# Altium schematic symbol library ws2812b.SchLib: 2 symbols
Pins are listed as number, name and electrical type; pins without a type are passive.

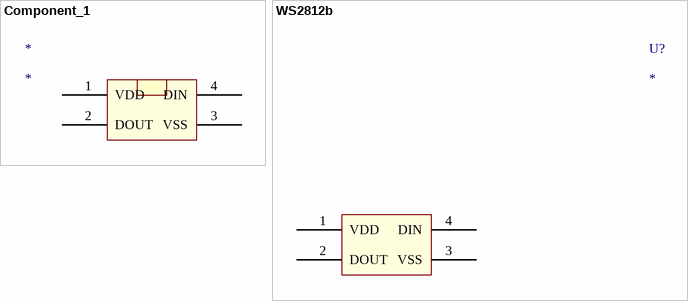
[diagram p0: symbols Component_1 to WS2812b]

## Component_1
designator *
footprint PCBComponent_1 - duplicate
pins: 1 VDD, 2 DOUT, 3 VSS, 4 DIN

## WS2812b
designator U?
footprint PCBComponent_1 - duplicate
pins: 1 VDD, 2 DOUT, 3 VSS, 4 DIN